# EAGLE library part TP4056 (library TP4056)
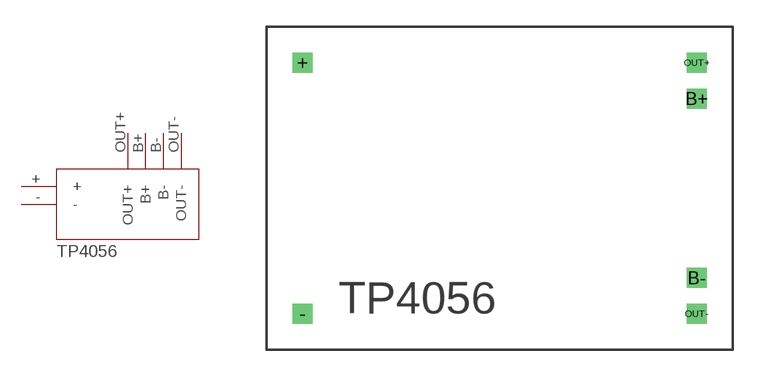
[diagram p0: symbol with the pads of TP4056; footprint TP4056]

Designator prefix -

## TP4056  [TP4056]
+  +
-  -
B+  B+
B-  B-
OUT+  OUT+
OUT-  OUT-

## Footprint TP4056 (pad centres in mm)
drill 0.6 square: + 2,16; - 2,2; B+ 24,14; B- 24,4; OUT+ 24,16; OUT- 24,2